# EAGLE library part INA122 (library EE445L)
Instrumentation Amplifier Single Supply, MicroPower, Single Supply: 2.2V to 36V, offset 250uV, G = 5 + 200k/RG, bandwidth is 120 kHz at gain=5
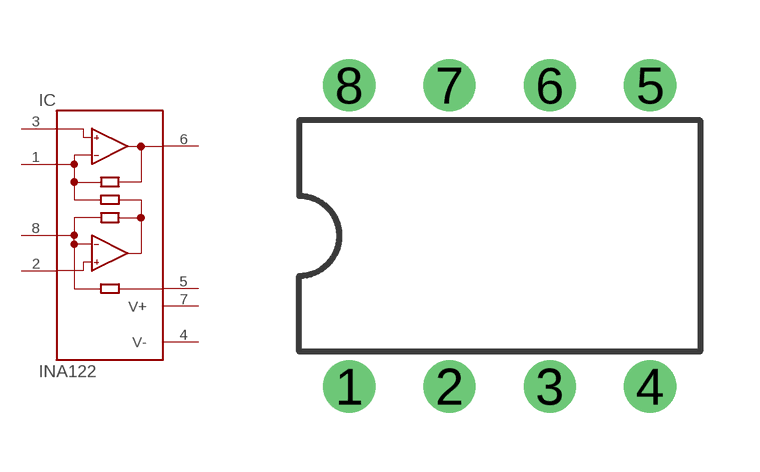
[diagram p4: symbol with the pads of DIL08; footprint DIL08]

Designator prefix IC

## INA122P (MF: TEXAS INSTRUMENTS; MPN: INA122P; OC_FARNELL: 1459460; OC_NEWARK: 15M0948)  [DIL08]
1  RG  pas
2  -IN  in
3  +IN  in
4  V-  pwr
5  REF  pas
6  OUT  out
7  V+  pwr
8  RG  pas

## Footprint DIL08 (pad centres in mm)
Dual In Line Package
drill 0.813 pad 1.27: 1 -3.81,-3.81; 2 -1.27,-3.81; 3 1.27,-3.81; 4 3.81,-3.81; 5 3.81,3.81; 6 1.27,3.81; 7 -1.27,3.81; 8 -3.81,3.81